# EAGLE library part SN74CBT3244PWR (library keves)
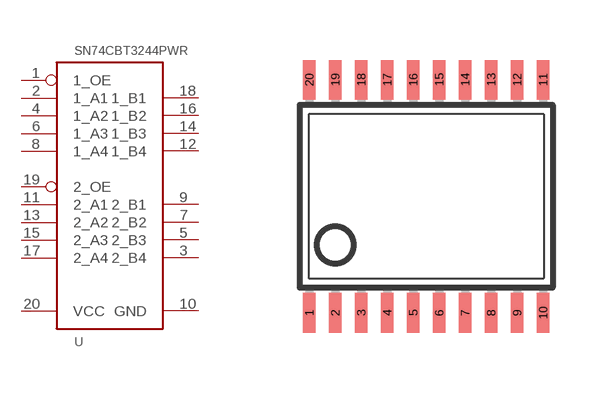
[diagram p21: symbol with the pads of TSSOP20; footprint TSSOP20]

Designator prefix -

## SN74CBT3244PWR  [TSSOP20]
1  1_OE
2  1_A1
3  2_B4
4  1_A2
5  2_B3
6  1_A3
7  2_B2
8  1_A4
9  2_B1
10  GND
11  2_A1
12  1_B4
13  2_A2
14  1_B3
15  2_A3
16  1_B2
17  2_A4
18  1_B1
19  2_OE
20  VCC

## Footprint TSSOP20 (pad centres in mm)
Thin Shrink Small Outline Plastic 20 MAX3223-MAX3243.pdf
smd 0.305 x 0.991: 1 -2.925,-2.918; 2 -2.275,-2.918; 3 -1.625,-2.918; 4 -0.975,-2.918; 5 -0.325,-2.918; 6 0.325,-2.918; 7 0.975,-2.918; 8 1.625,-2.918; 9 2.275,-2.918; 10 2.925,-2.918; 11 2.925,2.918; 12 2.275,2.918; 13 1.625,2.918; 14 0.975,2.918; 15 0.325,2.918; 16 -0.325,2.918; 17 -0.975,2.918; 18 -1.625,2.918; 19 -2.275,2.918; 20 -2.925,2.918